# Altium footprint library 杂项库.PcbLib: 585 footprints (part 23 of 37)
Each footprint in its own frame and in the unit in brackets; x right, y up, seen from the top. Pads: shape width x height; smd on the part's side, far side on the other; paste and mask are expansions set on the pad; w line width, h text height; cw(c..) or ccw(c..) is an arc to the next point about the centre after c.
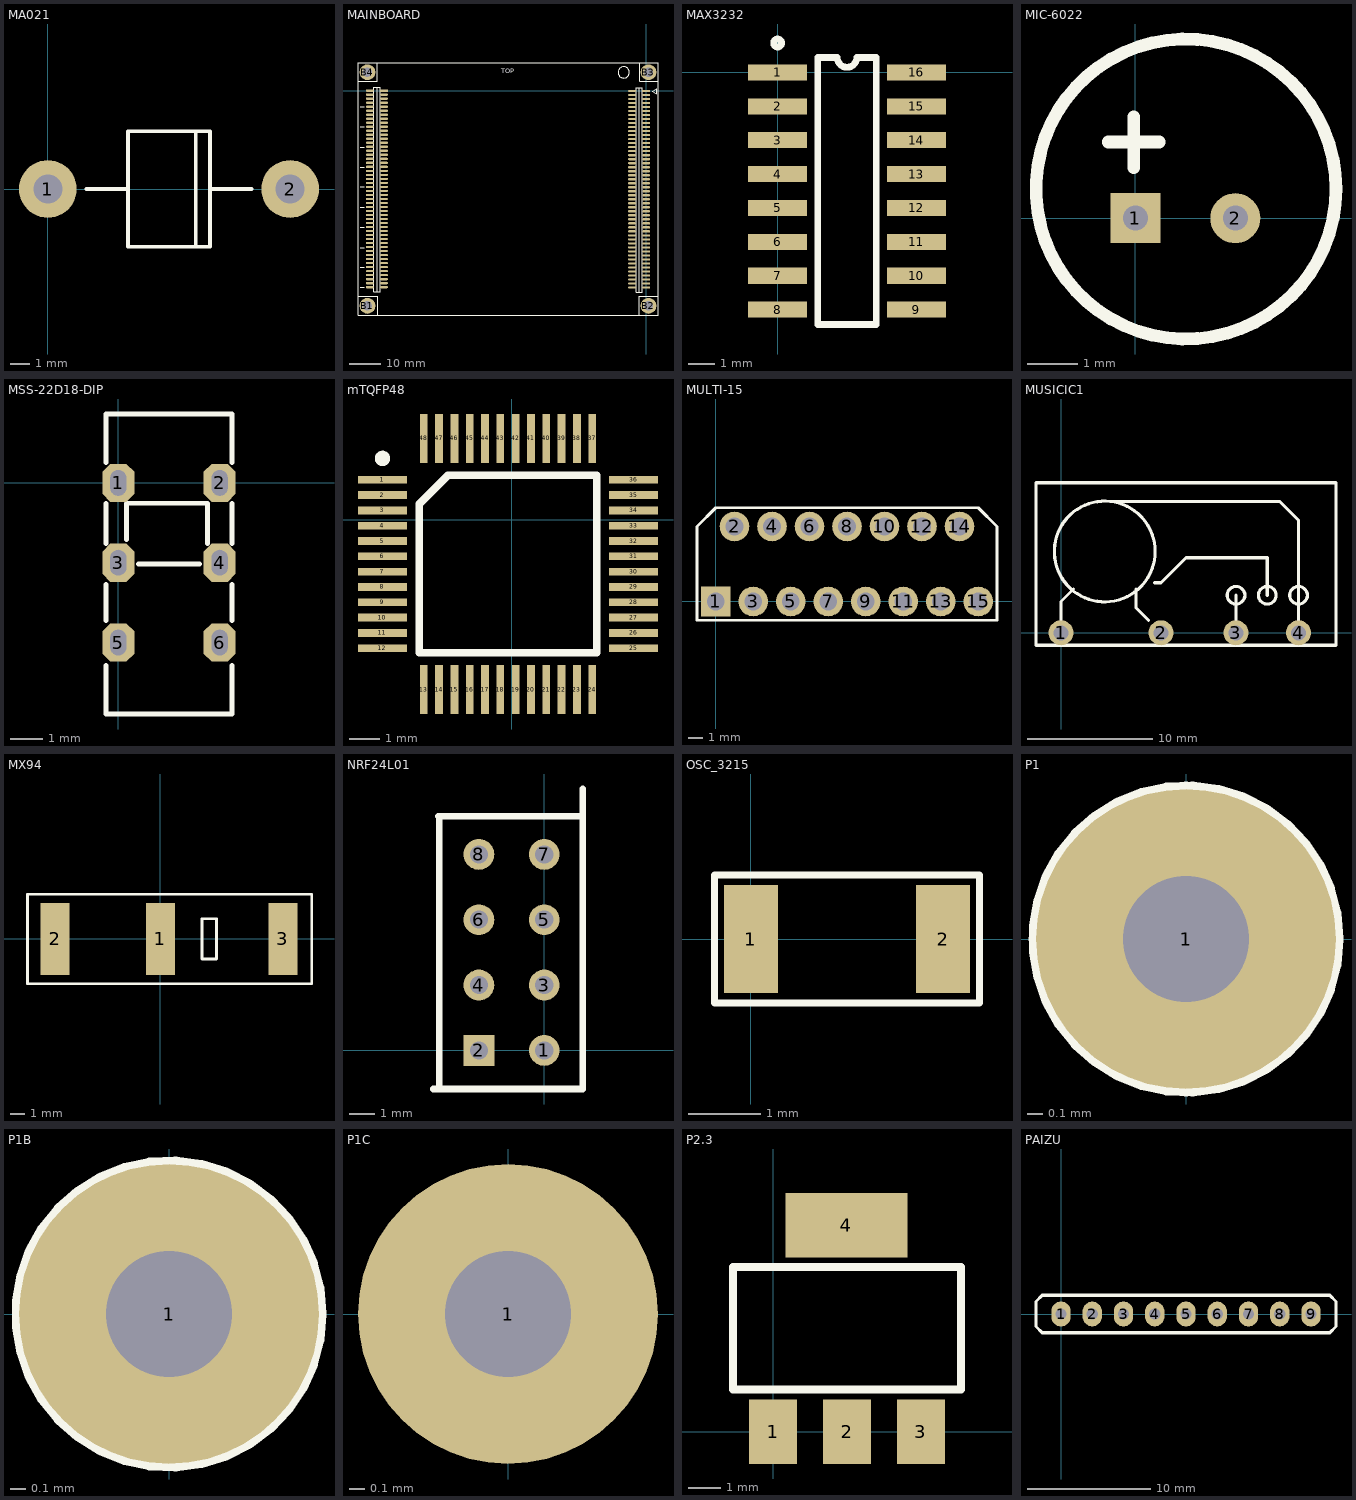
[diagram p22: the footprints below, top view; thin cyan lines are the x and y axes]

## MA021 [mm]
pads (2):
  round 3 hole 1.5: 1(0,0) 2(12.6,0)
Top Overlay:
  lines w0.2: 2,0 4.175,0 ; 7.692,-3 7.692,3 ; 8.425,0 10.6,0 ; 4.175,0 4.175,3 8.425,3 8.425,-3 4.175,-3 4.175,0

## MAINBOARD [mm]
pads (204):
  rect 2.5x0.7 smd: 1(0,0) 101(-83.032,0.104)
  oval 2.5x0.7 smd: 2(-4.48,0) 3(0,-1.27) 4(-4.48,-1.27) 5(0,-2.54) 6(-4.48,-2.54) 7(0,-3.81) 8(-4.48,-3.81) 9(0,-5.08) 10(-4.48,-5.08) 11(0,-6.35) 12(-4.48,-6.35) 13(0,-7.62) 14(-4.48,-7.62) 15(0,-8.89) 16(-4.48,-8.89) 17(0,-10.16) 18(-4.48,-10.16) 19(0,-11.43) 20(-4.48,-11.43) 21(0,-12.7) 22(-4.48,-12.7) 23(0,-13.97) 24(-4.48,-13.97) 25(0,-15.24) 26(-4.48,-15.24) 27(0,-16.51) 28(-4.48,-16.51) 29(0,-17.78) 30(-4.48,-17.78) 31(0,-19.05) 32(-4.48,-19.05) 33(0,-20.32) 34(-4.48,-20.32) 35(0,-21.59) 36(-4.48,-21.59) 37(0,-22.86) 38(-4.48,-22.86) 39(0,-24.13) 40(-4.48,-24.13) 41(0,-25.4) 42(-4.48,-25.4) 43(0,-26.67) 44(-4.48,-26.67) 45(0,-27.94) 46(-4.48,-27.94) 47(0,-29.21) 48(-4.48,-29.21) 49(0,-30.48) 50(-4.48,-30.48) 51(0,-31.75) 52(-4.48,-31.75) 53(0,-33.02) 54(-4.48,-33.02) 55(0,-34.29) 56(-4.48,-34.29) 57(0,-35.56) 58(-4.48,-35.56) 59(0,-36.83) 60(-4.48,-36.83) 61(0,-38.1) 62(-4.48,-38.1) 63(0,-39.37) 64(-4.48,-39.37) 65(0,-40.64) 66(-4.48,-40.64) 67(0,-41.91) 68(-4.48,-41.91) 69(0,-43.18) 70(-4.48,-43.18) 71(0,-44.45) 72(-4.48,-44.45) 73(0,-45.72) 74(-4.48,-45.72) 75(0,-46.99) 76(-4.48,-46.99) 77(0,-48.26) 78(-4.48,-48.26) 79(0,-49.53) 80(-4.48,-49.53) 81(0,-50.8) 82(-4.48,-50.8) 83(0,-52.07) 84(-4.48,-52.07) 85(0,-53.34) 86(-4.48,-53.34) 87(0,-54.61) 88(-4.48,-54.61) 89(0,-55.88) 90(-4.48,-55.88) 91(0,-57.15) 92(-4.44,-57.15) 93(0,-58.42) 94(-4.48,-58.42) 95(0,-59.69) 96(-4.48,-59.69) 97(0,-60.96) 98(-4.48,-60.96) 99(0,-62.23) 100(-4.48,-62.23) 102(-87.512,0.104) 103(-83.032,-1.166) 104(-87.512,-1.166) 105(-83.032,-2.436) 106(-87.512,-2.436) 107(-83.032,-3.706) 108(-87.512,-3.706) 109(-83.032,-4.976) 110(-87.512,-4.976) 111(-83.032,-6.246) 112(-87.512,-6.246) 113(-83.032,-7.516) 114(-87.512,-7.516) 115(-83.032,-8.786) 116(-87.512,-8.786) 117(-83.032,-10.056) 118(-87.512,-10.056) 119(-83.032,-11.326) 120(-87.512,-11.326) 121(-83.032,-12.596) 122(-87.512,-12.596) 123(-83.032,-13.866) 124(-87.512,-13.866) 125(-83.032,-15.136) 126(-87.512,-15.136) 127(-83.032,-16.406) 128(-87.512,-16.406) 129(-83.032,-17.676) 130(-87.512,-17.676) 131(-83.032,-18.946) 132(-87.512,-18.946) 133(-83.032,-20.216) 134(-87.512,-20.216) 135(-83.032,-21.486) 136(-87.512,-21.486) 137(-83.032,-22.756) 138(-87.512,-22.756) 139(-83.032,-24.026) 140(-87.512,-24.026) 141(-83.032,-25.296) 142(-87.512,-25.296) 143(-83.032,-26.566) 144(-87.512,-26.566) 145(-83.032,-27.836) 146(-87.512,-27.836) 147(-83.032,-29.106) 148(-87.512,-29.106) 149(-83.032,-30.376) 150(-87.512,-30.376) 151(-83.032,-31.646) 152(-87.512,-31.646) 153(-83.032,-32.916) 154(-87.512,-32.916) 155(-83.032,-34.186) 156(-87.512,-34.186) 157(-83.032,-35.456) 158(-87.512,-35.456) 159(-83.032,-36.726) 160(-87.512,-36.726) 161(-83.032,-37.996) 162(-87.512,-37.996) 163(-83.032,-39.266) 164(-87.512,-39.266) 165(-83.032,-40.536) 166(-87.512,-40.536) 167(-83.032,-41.806) 168(-87.512,-41.806) 169(-83.032,-43.076) 170(-87.512,-43.076) 171(-83.032,-44.346) 172(-87.512,-44.346) 173(-83.032,-45.616) 174(-87.512,-45.616) 175(-83.032,-46.886) 176(-87.512,-46.886) 177(-83.032,-48.156) 178(-87.512,-48.156) 179(-83.032,-49.426) 180(-87.512,-49.426) 181(-83.032,-50.696) 182(-87.512,-50.696) 183(-83.032,-51.966) 184(-87.512,-51.966) 185(-83.032,-53.236) 186(-87.512,-53.236) 187(-83.032,-54.506) 188(-87.512,-54.506) 189(-83.032,-55.776) 190(-87.512,-55.776) 191(-83.032,-57.046) 192(-87.472,-57.046) 193(-83.032,-58.316) 194(-87.512,-58.316) 195(-83.032,-59.586) 196(-87.512,-59.586) 197(-83.032,-60.856) 198(-87.512,-60.856) 199(-83.032,-62.126) 200(-87.512,-62.126)
  round 5 hole 3: B1(-88.267,-68.05) B2(0.733,-68.05) B3(0.733,5.95) B4(-88.267,5.95)
Top Overlay:
  circle w0.254: c-7.097,5.891 r1.787
  lines w0.178: -90.532,-62.196 -89.232,-62.196 ; -90.532,-55.896 -89.232,-55.896 ; -90.532,-49.596 -89.232,-49.596 ; -90.532,-43.096 -89.232,-43.096 ; -90.532,-36.796 -89.232,-36.796 ; -90.532,-30.396 -89.232,-30.396 ; -90.532,-24.096 -89.232,-24.096 ; -90.532,-17.796 -89.232,-17.796 ; -90.532,-11.296 -89.232,-11.296 ; -90.532,-4.996 -89.232,-4.996 ; -85.232,-63.596 -85.232,1.104 ; -2.2,-63.7 -2.2,1 ; -91.256,-71.04 -91.256,8.96 3.744,8.96 3.744,-71.04 -91.256,-71.04 ; -86.232,-63.596 -86.232,1.104 -84.232,1.104 -84.232,-63.596 -86.232,-63.596 ; -3.2,-63.7 -3.2,1 -1.2,1 -1.2,-63.7 -3.2,-63.7 ; 1.876,-0.062 3.4,0.7 3.4,-0.824 1.876,-0.062
  lines w0.254: -91.256,-64.939 -85.027,-64.939 -85.027,-71.01 -85.057,-71.04 ; -91.256,3.011 -85.147,3.011 -85.117,3.041 -85.117,8.9 -85.057,8.96 ; -2.117,-70.97 -2.117,-64.979 -2.087,-65.009 3.744,-65.009 ; -2.097,8.96 -2.097,3.051 3.714,3.051 3.744,3.081
  text "TOP" at -45.939,5.571 h1.52

## MAX3232 [mm]
pads (16):
  rect 2.2x0.6 smd: 1(0,0) 2(0,-1.27) 3(0,-2.54) 4(0,-3.81) 5(0,-5.08) 6(0,-6.35) 7(0,-7.62) 8(0,-8.89) 9(5.2,-8.89) 10(5.2,-7.62) 11(5.2,-6.35) 12(5.2,-5.08) 13(5.2,-3.81) 14(5.2,-2.54) 15(5.2,-1.27) 16(5.2,0)
Top Overlay:
  circle w0.25: c0,1.1 r0.15
  lines w0.25: 1.5,-9.445 1.5,0.555 2.233,0.555 ccw(c2.6,0.555) 2.967,0.555 3.7,0.555 3.7,-9.445 1.5,-9.445

## MIC-6022 [mm]
pads (2):
  rect 1x1 hole 0.5: 1(0,0)
  round 1 hole 0.5: 2(2,0)
Top Overlay:
  circle w0.254: c1.013,0.584 r3
  lines w0.254: -0.54,1.524 0.476,1.524 ; -0.032,1.016 -0.032,2.032

## MSS-22D18-DIP [mm]
pads (6):
  oct 1x1.2 hole 0.5 slot 0.8 at 90 deg: 1(0,0) 2(3.175,0) 3(0,-2.5) 4(3.175,-2.5) 5(0,-5) 6(3.175,-5)
Top Overlay:
  lines w0.152: -0.381,-5.715 -0.381,-7.239 3.556,-7.239 3.556,-5.715 ; -0.381,-4.318 -0.381,-3.175 ; -0.381,-1.905 -0.381,-0.635 ; -0.381,0 -0.016,0 ; -0.381,0.635 -0.381,2.159 3.556,2.159 3.556,0.635 ; 0.254,-1.778 0.254,-0.635 2.794,-0.635 2.794,-1.905 ; 0.635,-2.54 2.54,-2.54 ; 3.556,-4.318 3.556,-3.175 ; 3.556,-1.905 3.556,-0.635

## mTQFP48 [mm]
pads (48):
  rect 1.6x0.254 smd: 1(-4.223,1.3) 2(-4.223,0.8) 3(-4.223,0.3) 4(-4.223,-0.2) 5(-4.223,-0.7) 6(-4.223,-1.2) 7(-4.223,-1.7) 8(-4.223,-2.2) 9(-4.223,-2.7) 10(-4.223,-3.2) 11(-4.223,-3.7) 12(-4.223,-4.2) 25(3.977,-4.2) 26(3.977,-3.7) 27(3.977,-3.2) 28(3.977,-2.7) 29(3.977,-2.2) 30(3.977,-1.7) 31(3.977,-1.2) 32(3.977,-0.7) 33(3.977,-0.2) 34(3.977,0.3) 35(3.977,0.8) 36(3.977,1.3)
  rect 0.254x1.6 smd: 13(-2.873,-5.55) 14(-2.373,-5.55) 15(-1.873,-5.55) 16(-1.373,-5.55) 17(-0.873,-5.55) 18(-0.373,-5.55) 19(0.127,-5.55) 20(0.627,-5.55) 21(1.127,-5.55) 22(1.627,-5.55) 23(2.127,-5.55) 24(2.627,-5.55) 37(2.627,2.65) 38(2.127,2.65) 39(1.627,2.65) 40(1.127,2.65) 41(0.627,2.65) 42(0.127,2.65) 43(-0.373,2.65) 44(-0.873,2.65) 45(-1.373,2.65) 46(-1.873,2.65) 47(-2.373,2.65) 48(-2.873,2.65)
Top Overlay:
  circle w0.25: c-4.223,2 r0.125
  lines w0.2: -3.023,-4.35 2.777,-4.35 2.777,1.45
  lines w0.254: -3.023,0.508 -2.081,1.45 ; -3.023,0.508 -3.023,-4.35 2.777,-4.35 2.777,1.45 -1.397,1.45 -2.081,1.45 ; -3.023,0.508 -2.081,1.45

## MULTI-15 [mm]
pads (15):
  rect 2x2 hole 1.2: 1(0,0)
  round 2 hole 1.2: 2(1.27,5.08) 3(2.54,0) 4(3.81,5.08) 5(5.08,0) 6(6.35,5.08) 7(7.62,0) 8(8.89,5.08) 9(10.16,0) 10(11.43,5.08) 11(12.7,0) 12(13.97,5.08) 13(15.24,0) 14(16.51,5.08) 15(17.78,0)
Top Overlay:
  lines w0.2: -1.27,-1.27 -1.27,5.08 0,6.35 17.78,6.35 19.05,5.08 19.05,-1.27 -1.27,-1.27

## MUSICIC1 [mm]
pads (4):
  round 2 hole 1.2: 1(0,0) 2(8,0) 3(14,0) 4(19,0)
Top Overlay:
  circle w0.254: c3.5,6.5 r4.031
  circle w0.254: c14,3 r0.707
  circle w0.254: c16.5,3 r0.707
  circle w0.254: c19,3 r0.707
  lines w0.254: 0,1 0,2.5 1,3.5 ; 4,10.5 17.5,10.5 19,9 19,1 ; 6,3.5 6,2 7,1 ; 7.5,4 8,4 10,6 16.5,6 16.5,3 ; 14,1 14,3 ; -2,-1 22,-1 22,12 -2,12 -2,-1

## MX94 [mm]
pads (3):
  rect 2x5 all layers, no hole: 1(0,0) 2(-7.3,0) 3(8.5,0)
Top Overlay:
  lines w0.2: -9.2,-3.1 10.5,-3.1 10.5,3.1 -9.2,3.1 -9.2,-3.1 ; 2.9,-1.4 2.9,1.4 3.9,1.4 3.9,-1.4 2.9,-1.4
Keep-Out Layer:
  lines w0.2: -7.7,-1.6 -7.7,1.8 -6.9,1.8 -6.9,-1.6 -7.7,-1.6 ; -0.4,-1.6 -0.4,1.8 0.4,1.8 0.4,-1.6 -0.4,-1.6 ; 8.1,-1.6 8.1,1.8 8.9,1.8 8.9,-1.6 8.1,-1.6

## NRF24L01 [mm]
pads (8):
  round 1.2 hole 0.7: 1(0,0) 3(0,2.54) 4(-2.54,2.54) 5(0,5.08) 6(-2.54,5.08) 7(0,7.62) 8(-2.54,7.62)
  rect 1.2x1.2 hole 0.7: 2(-2.54,0)
Top Overlay:
  lines w0.254: -4.318,-1.5 1.5,-1.5 1.5,10.16 ; -4.089,-1.5 -4.089,9.068 -4.115,9.093 1.5,9.093

## OSC_3215 [mm]
pads (2):
  rect 0.75x1.5 smd: 1(0,0) 2(2.667,0)
Top Overlay:
  lines w0.1: -0.508,-0.889 3.175,-0.889 3.175,0.889 -0.508,0.889 -0.508,-0.889

## P1 [mm]
pads (1):
  round 2 hole 0.84: 1(0,0)
Top Overlay:
  circle w0.1: c0,0 r1
  lines w0.1: -1,0 1,0 ; 0,-1 0,1

## P1B [mm]
pads (1):
  round 2 hole 0.84: 1(0,0)
Top Overlay:
  circle w0.1: c0,0 r1

## P1C [mm]
pads (1):
  round 2 hole 0.84: 1(0,0)

## P2.3 [mil]
pads (4):
  rect 59x79 smd: 1(0,0) 2(90.55,0) 3(181.1,0)
  rect 150x79 smd: 4(89.88,253.54)
Top Overlay:
  lines w10: -49.45,52 230.55,52 230.55,202 -49.45,202 -49.45,52

## PAIZU [mil]
pads (9):
  oval 62x80 hole 36: 1(0,0) 2(100,0) 3(200,0) 4(300,0) 5(400,0) 6(500,0) 7(600,0) 8(700,0) 9(800,0)
Top Overlay:
  lines w10: -80,-40 -80,40 -60,60 -40,60 740,60 860,60 880,40 880,-40 860,-60 740,-60 -60,-60 -80,-40